# EAGLE library part 1X6_RIGHT_ANGLE (library sduino)
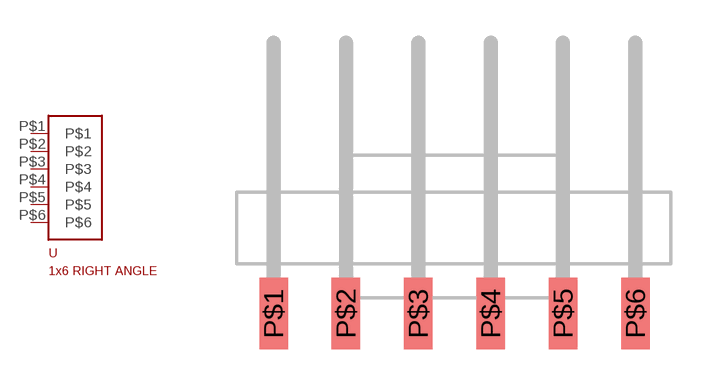
[diagram p8: symbol with the pads of 1X6_RIGHT_ANGLE; footprint 1X6_RIGHT_ANGLE]

Designator prefix -

## 1X6_RIGHT_ANGLE  [1X6_RIGHT_ANGLE]
P$1  P$1
P$2  P$2
P$3  P$3
P$4  P$4
P$5  P$5
P$6  P$6

## Footprint 1X6_RIGHT_ANGLE (pad centres in mm)
smd 1 x 2.5: P$1 0.5,1.25; P$2 3.04,1.25; P$3 5.58,1.25; P$4 8.12,1.25; P$5 10.66,1.25; P$6 13.2,1.25